# EAGLE library part LY530ALH (library LY530ALH)
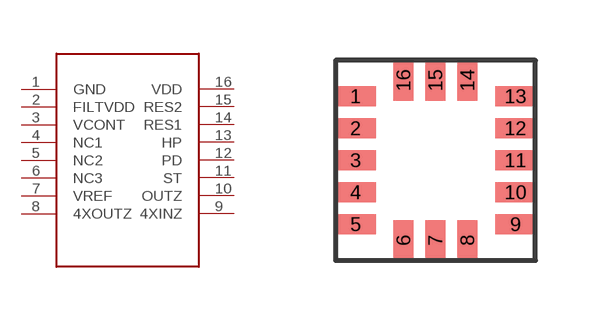
[diagram p0: symbol with the pads of LGA16-5X5; footprint LGA16-5X5]

Designator prefix -

## LY530ALH  [LGA16-5X5]
1  GND  pwr
2  FILTVDD
3  VCONT
4  NC1  nc
5  NC2  nc
6  NC3  nc
7  VREF  out
8  4XOUTZ  out
9  4XINZ  in
10  OUTZ  out
11  ST
12  PD
13  HP
14  RES1  pwr
15  RES2  pwr
16  VDD  pwr

## Footprint LGA16-5X5 (pad centres in mm)
smd 1.016 x 0.508: 1 -2,1.6; 2 -2,0.8; 3 -2,0; 4 -2,-0.8; 5 -2,-1.6; 9 2,-1.6; 10 2,-0.8; 11 2,0; 12 2,0.8; 13 2,1.6
smd 0.508 x 1.016: 6 -0.8,-2; 7 0,-2; 8 0.8,-2; 14 0.8,2; 15 0,2; 16 -0.8,2